# Altium integrated library LAB3.IntLib: 6 symbols
Pins are listed as number, name and electrical type; pins without a type are passive.

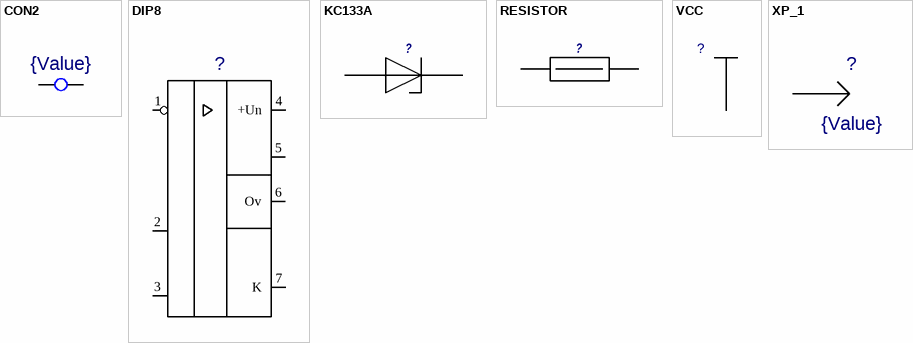
[diagram p0: symbols CON2 to XP_1]

## CON2
designator ?  value {Value}  (hidden comment: CON2)
footprint 2PAD_CON2(Primary)
pins: 1 A1, 2 A2

## DIP8
designator ?  (value not drawn)
Value: *
footprint DIP8_DIP8(Primary)
pins: 1 IN1, 2 IN2, 3 IN2, 4 +Un, 5, 6 Ov, 7 K, PWR GND hidden

## KC133A
designator ?  (value not drawn)
Value: {Value}
footprint KC133A
pins: 1, 2

## RESISTOR
designator ?  (value not drawn)
Value: {Value}
footprint МЛТ(0.5)
pins: 1, 2

## VCC
designator ?  (value not drawn)
Value: *
footprint 1PAD
pins: 1 (power)

## XP_1
designator ?  value {Value}  (hidden comment: XP_1)
footprint 1PAD
pins: 1 A1